# EAGLE library part BEAGLEBONE_CAPE_GND_PLANE (library bbb_localization_cape)
Should match A3 pinout - but not completely tested
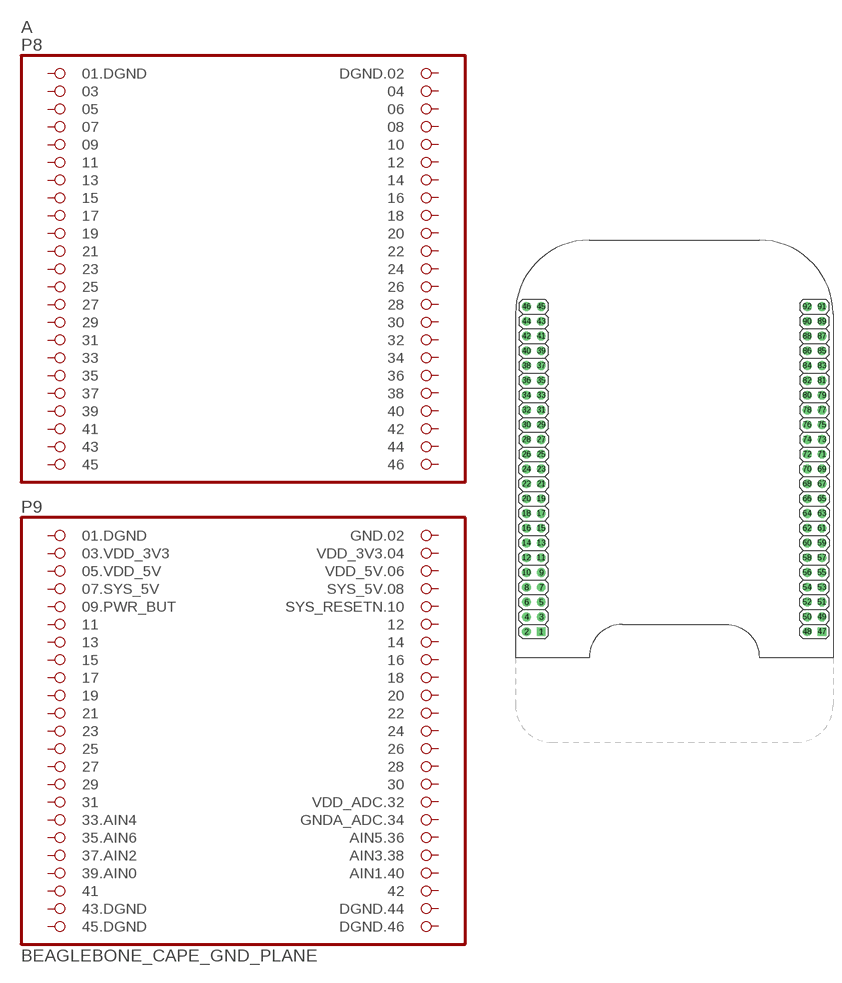
[diagram p4: symbol with the pads of BEAGLEBONE_SHIELD; footprint BEAGLEBONE_SHIELD]

Designator prefix A

## BEAGLEBONE_CAPE_GND_PLANE  [BEAGLEBONE_SHIELD]
1  01.DGND  pwr
2  DGND.02  pwr
3  03
4  04
5  05
6  06
7  07
8  08
9  09
10  10
11  11
12  12
13  13
14  14
15  15
16  16
17  17
18  18
19  19
20  20
21  21
22  22
23  23
24  24
25  25
26  26
27  27
28  28
29  29
30  30
31  31
32  32
33  33
34  34
35  35
36  36
37  37
38  38
39  39
40  40
41  41
42  42
43  43
44  44
45  45
46  46
47  01.DGND  pwr
48  GND.02  pwr
49  03.VDD_3V3  pwr
50  VDD_3V3.04  pwr
51  05.VDD_5V  pwr
52  VDD_5V.06  pwr
53  07.SYS_5V  pwr
54  SYS_5V.08  pwr
55  09.PWR_BUT  in
56  SYS_RESETN.10
57  11
58  12
59  13
60  14
61  15
62  16
63  17
64  18
65  19
66  20
67  21
68  22
69  23
70  24
71  25
72  26
73  27
74  28
75  29
76  30
77  31
78  VDD_ADC.32  pwr
79  33.AIN4  in
80  GNDA_ADC.34  pwr
81  35.AIN6  in
82  AIN5.36  in
83  37.AIN2  in
84  AIN3.38  in
85  39.AIN0  in
86  AIN1.40  in
87  41
88  42
89  43.DGND  pwr
90  DGND.44  pwr
91  45.DGND  pwr
92  DGND.46  pwr

## Footprint BEAGLEBONE_SHIELD (pad centres in mm)
drill 1 square: 1 4.445,19.05; 47 52.705,19.05
drill 1: 2 1.905,19.05; 3 4.445,21.59; 4 1.905,21.59; 5 4.445,24.13; 6 1.905,24.13; 7 4.445,26.67; 8 1.905,26.67; 9 4.445,29.21; 10 1.905,29.21; 11 4.445,31.75; 12 1.905,31.75; 13 4.445,34.29; 14 1.905,34.29; 15 4.445,36.83; 16 1.905,36.83; 17 4.445,39.37; 18 1.905,39.37; 19 4.445,41.91; 20 1.905,41.91; 21 4.445,44.45; 22 1.905,44.45; 23 4.445,46.99; 24 1.905,46.99; 25 4.445,49.53; 26 1.905,49.53; 27 4.445,52.07; 28 1.905,52.07; 29 4.445,54.61; 30 1.905,54.61; 31 4.445,57.15; 32 1.905,57.15; 33 4.445,59.69; 34 1.905,59.69; 35 4.445,62.23; 36 1.905,62.23; 37 4.445,64.77; 38 1.905,64.77; 39 4.445,67.31; 40 1.905,67.31; 41 4.445,69.85; 42 1.905,69.85; 43 4.445,72.39; 44 1.905,72.39; 45 4.445,74.93; 46 1.905,74.93; 48 50.165,19.05; 49 52.705,21.59; 50 50.165,21.59; 51 52.705,24.13; 52 50.165,24.13; 53 52.705,26.67; 54 50.165,26.67; 55 52.705,29.21; 56 50.165,29.21; 57 52.705,31.75; 58 50.165,31.75; 59 52.705,34.29; 60 50.165,34.29; 61 52.705,36.83; 62 50.165,36.83; 63 52.705,39.37; 64 50.165,39.37; 65 52.705,41.91; 66 50.165,41.91; 67 52.705,44.45; 68 50.165,44.45; 69 52.705,46.99; 70 50.165,46.99; 71 52.705,49.53; 72 50.165,49.53; 73 52.705,52.07; 74 50.165,52.07; 75 52.705,54.61; 76 50.165,54.61; 77 52.705,57.15; 78 50.165,57.15; 79 52.705,59.69; 80 50.165,59.69; 81 52.705,62.23; 82 50.165,62.23; 83 52.705,64.77; 84 50.165,64.77; 85 52.705,67.31; 86 50.165,67.31; 87 52.705,69.85; 88 50.165,69.85; 89 52.705,72.39; 90 50.165,72.39; 91 52.705,74.93; 92 50.165,74.93